# Altium footprint library KLS1-4.20-2X12.PcbLib: 1 footprints
Each footprint in its own frame and in the unit in brackets; x right, y up, seen from the top. Pads: shape width x height; smd on the part's side, far side on the other; paste and mask are expansions set on the pad; w line width, h text height; cw(c..) or ccw(c..) is an arc to the next point about the centre after c.
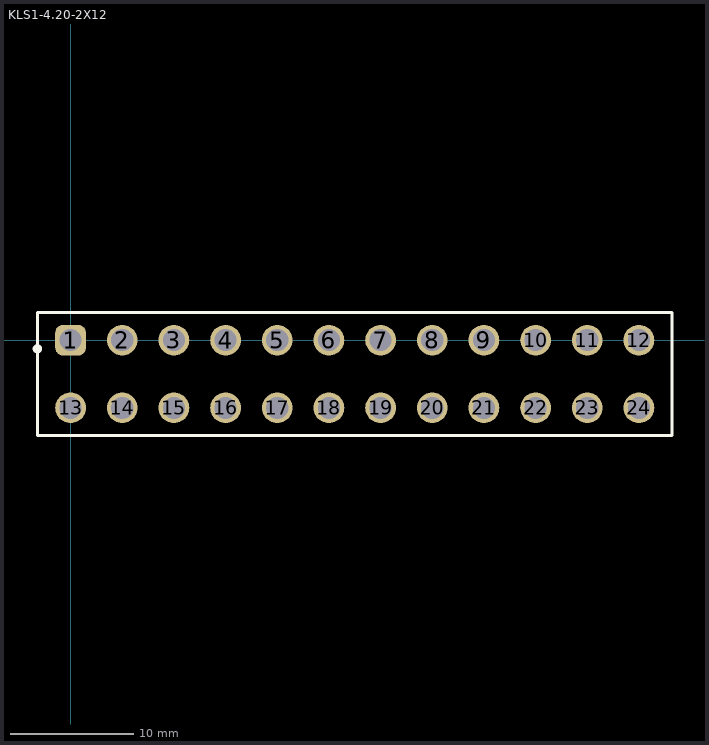
[diagram p0: the footprint, top view; thin cyan lines are the x and y axes]

## KLS1-4.20-2X12 [mm]
pads (24):
  rrect50% 2.5x2.5 hole 1.8: 1(0,0)
  round 2.5 hole 1.8: 2(4.2,0) 3(8.4,0) 4(12.6,0) 5(16.8,0) 6(21,0) 7(25.2,0) 8(29.4,0) 9(33.6,0) 10(37.8,0) 11(42,0) 12(46.2,0) 13(0,-5.5) 14(4.2,-5.5) 15(8.4,-5.5) 16(12.6,-5.5) 17(16.8,-5.5) 18(21,-5.5) 19(25.2,-5.5) 20(29.4,-5.5) 21(33.6,-5.5) 22(37.8,-5.5) 23(42,-5.5) 24(46.2,-5.5)
Top Overlay:
  circle w0.5: c-2.7,-0.7 r0.125
  lines w0.254: -2.7,-7.75 -2.7,2.25 48.9,2.25 48.9,-7.75 -2.7,-7.75
3D body "KLS1-4.20-2x12.step": height 12.8, standoff -3.2, extent -3,-8.85 48.85,2.05